# Altium schematic symbol library MEA1608L101RTA0G.SchLib: 1 symbol
Pins are listed as number, name and electrical type; pins without a type are passive.

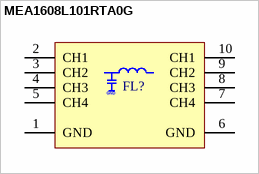
[diagram p0: symbol MEA1608L101RTA0G]

## MEA1608L101RTA0G
designator FL?
EMI Filter
pins: 1 GND (power), 2 CH1, 3 CH2, 4 CH3, 5 CH4, 6 GND (power), 7 CH4, 8 CH3, 9 CH2, 10 CH1